# Altium schematic symbol library dvrk-s-pwm_1.SCHLIB: 54 symbols (part 1 of 2)
Pins are listed as number, name and electrical type; pins without a type are passive.

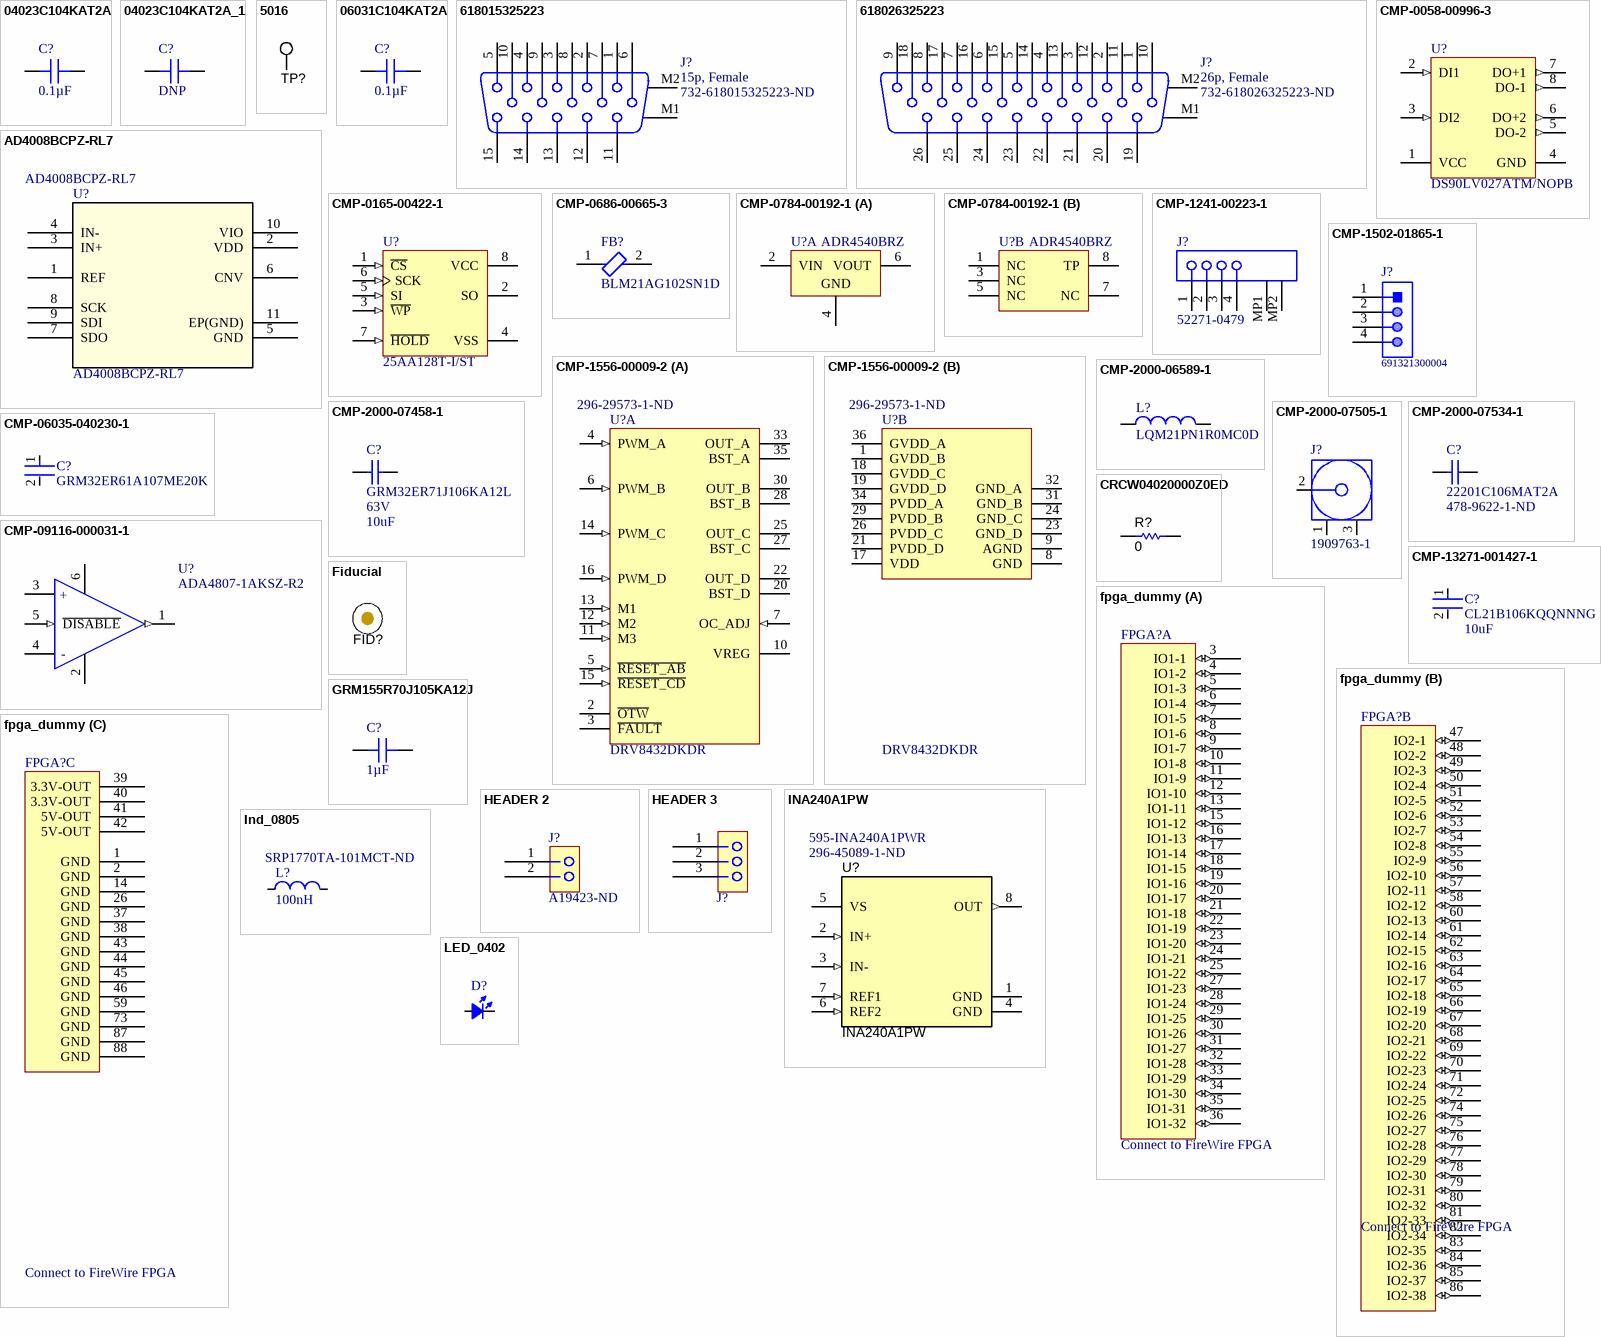
[diagram p0: symbols 04023C104KAT2A to LED_0402]

## 04023C104KAT2A
designator C?, comment 0.1µF
CAP CER 0.1UF 25V X7R 0402; Part Number: 04023C104KAT2A; Manufacturer: AVX Corporation; Tolerance: ±10%; Applications: General Purpose; Capacitance: 0.1µF; ComponentLink1Description: Datasheet; ComponentLink1URL: http://datasheets.avx.com/X7RDielectric.pdf; ComponentLink2Description: DigiKey Link; ComponentLink2URL: http://digikey.com/product-detail/en/avx-corporation/04023C104KAT2A/478-7868-1-ND/3881491; Device Package: 0402 (1005 Metric); LastUpdated: 9/2/2020 1:02:21 AM; Lifecycle Status: Active; Minimum Order: 1; Mounting Type: Surface Mount, MLCC; Operating Temperature: -55°C ~ 125°C; Package / Case: 0402 (1005 Metric); Packaging: CutTape; PartId: 3190; Part Status: Active; Price: 0.13; Series: -; Size / Dimension: 0.039" L x 0.020" W (1.00mm x 0.50mm); Supplier 1: DigiKey; Supplier Part Number 1: 478-7868-1-ND; Temperature Coefficient: X7R; Thickness (Max): 0.022" (0.55mm); Voltage - Rated: 25V; Value: 0.1µF
footprint CAP 0402_1005
pins: 1, 2

## 04023C104KAT2A_1
designator C?, comment DNP
CAP CER 0.1UF 25V X7R 0402; Part Number: 04023C104KAT2A; Manufacturer: AVX Corporation; Capacitance: 0.1µF; Tolerance: ±10%; Value: DNP; Applications: General Purpose; ComponentLink1Description: Datasheet; ComponentLink1URL: http://datasheets.avx.com/X7RDielectric.pdf; ComponentLink2Description: DigiKey Link; ComponentLink2URL: http://digikey.com/product-detail/en/avx-corporation/04023C104KAT2A/478-7868-1-ND/3881491; Device Package: 0402 (1005 Metric); LastUpdated: 9/2/2020 1:02:21 AM; Lifecycle Status: Active; Minimum Order: 1; Mounting Type: Surface Mount, MLCC; Operating Temperature: -55°C ~ 125°C; Package / Case: 0402 (1005 Metric); Packaging: CutTape; PartId: 3190; Part Status: Active; Price: 0.13; Series: -; Size / Dimension: 0.039" L x 0.020" W (1.00mm x 0.50mm); Supplier 1: DigiKey; Supplier Part Number 1: 478-7868-1-ND; Temperature Coefficient: X7R; Thickness (Max): 0.022" (0.55mm); Voltage - Rated: 25V
footprint CAP 0402_1005
pins: 1, 2

## 5016
designator TP?  (value not drawn)
Test Point, Compact, SMT; Manufacturer: Keystone; CompType: Test Point Loop; SymbolVersion: 2008-04-04; PartNumber: 5016; PackageReference: Testpoint_Keystone_Compact; RoHS: Y; MountType: SMT; ComponentLink1Description: Datasheet URL; ComponentLink1URL: http://www.keyelco.com/userAssets/store/files/5016.PDF; Publisher: Texas Instruments; LatestRevisionDate: 2016-09-14; Supplier 1: Digi-Key; Supplier Part Number 1: 36-5016TR-ND; Supplier 2: Mouser; Supplier Part Number 2: 534-5016
footprint Testpoint_Keystone_Compact
pins: 1

## 06031C104KAT2A
designator C?, comment 0.1µF
CAP CER 0.1UF 100V X7R 0603; Part Number: 06031C104KAT2A; Manufacturer: AVX Corporation; Tolerance: ±10%; Value: 0.1µF; Applications: General Purpose; Capacitance: 0.1µF; ComponentLink1Description: Datasheet; ComponentLink1URL: http://datasheets.avx.com/X7RDielectric.pdf; ComponentLink2Description: DigiKey Link; ComponentLink2URL: http://digikey.com/product-detail/en/avx-corporation/06031C104KAT2A/478-10047-1-ND/6564270; Device Package: 0603 (1608 Metric); LastUpdated: 9/2/2020 1:03:14 AM; Lifecycle Status: Active; Minimum Order: 1; Mounting Type: Surface Mount, MLCC; Operating Temperature: -55°C ~ 125°C; Package / Case: 0603 (1608 Metric); Packaging: TapeAndReel; PartId: 14077; Part Status: Active; Price: 0.03; Series: -; Size / Dimension: 0.063" L x 0.032" W (1.60mm x 0.81mm); Supplier 1: DigiKey; Supplier Part Number 1: 478-10047-1-ND; Temperature Coefficient: X7R; Thickness (Max): 0.037" (0.94mm); Voltage - Rated: 100V
footprint CAP 0603_1608
pins: 1, 2

## 618015325223
designator J?, comment 15p, Female  Supplier Part Number 1: 732-618015325223-ND
WR-DSUB Female High Density Angled PCB Connector without Hex Screw, 15p; PartNumber: 618015325223; Manufacturer: Wurth Electronics; PinNumber: 15; Published: June 2016; Publisher: Wurth Elektronik; ComponentLink1Description: Manufacturer; ComponentLink1URL: http://www.we-online.de; ComponentLink2Description: Datasheet; ComponentLink2URL: http://katalog.we-online.de/em/datasheet/6180xx325223.pdf; Supplier 1: Digi-Key; Manufacturer Part Number: 618015325223; RoHS: Yes; Category: D-Sub Connectors; Stock 1: 157; Pricing 1: 1=4.02000, 10=3.81000, 50=3.38400, 100=2.95200, 250=2.53200, 500=2.25600 (USD); RoHS Compliant: Yes
footprint 618015325223 (15 pins, right angled with Rivet)
pins: 1, 2, 3, 4, 5, 6, 7, 8, 9, 10, 11, 12, 13, 14, 15, M1, M2

## 618026325223
designator J?, comment 26p, Female  Supplier Part Number 1: 732-618026325223-ND
WR-DSUB Female High Density Angled PCB Connector without Hex Screw, 26p; PartNumber: 618026325223; Manufacturer: Wurth Electronics; PinNumber: 26; Published: June 2016; Publisher: Wurth Elektronik; ComponentLink1Description: Manufacturer; ComponentLink1URL: http://www.we-online.de; ComponentLink2Description: Datasheet; ComponentLink2URL: http://katalog.we-online.de/em/datasheet/6180xx325223.pdf; system: connector; Supplier 1: Digi-Key; Manufacturer Part Number: 618026325223; RoHS: Yes; Stock 1: 325; Pricing 1: 1=8.10000, 10=7.69500, 50=7.15500, 100=6.75000, 250=6.21000, 500=5.40002 (USD); RoHS Compliant: Yes
footprint 618026325223 (26 pins, right angled with Rivet)
pins: 1, 2, 3, 4, 5, 6, 7, 8, 9, 10, 11, 12, 13, 14, 15, 16, 17, 18, 19, 20, 21, 22, 23, 24, 25, 26, M1, M2

## AD4008BCPZ-RL7
designator U?
16-Bit, 2 MSPS/1 MSPS/500 kSPS, / Precision, Pseudo Differential, SAR ADCs; Value: Value; Type: Type; RefDes: RefDes; Supplier 1: Arrow Electronics; Supplier Part Number 1: AD4008BCPZ-RL7
footprint CP_10_9
pins: 1 REF, 2 VDD, 3 IN+, 4 IN-, 5 GND, 6 CNV, 7 SDO, 8 SCK, 9 SDI, 10 VIO, 11 EP(GND)

## CMP-0058-00996-3
designator U?, comment DS90LV027ATM/NOPB
LVDS Dual High Speed Differential Driver, 8-pin Narrow SOIC, Pb-Free; Manufacturer: Texas Instruments; PowerWise: N; CompType: Interface IC; PackageTopMarking: NSZXTT*LV27A*TM; ComponentLink1Description: Datasheet URL; Code_JEDEC: MS-012-AA; PinCount: 8; PackageDescription: SOIC Narrow, 4.9 x 3.9 x 1.45mm, 8 Lead, 1.27mm Pitch; RoHS: Y; ComponentLink1URL: http://www.ti.com/general/docs/lit/getliterature.tsp?genericPartNumber=DS90LV027A&fileType=pdf; PackageReference: D0008A; Code_IPC: SOIC127P600-8
footprint D0008A_L (SOIC, 8-Leads, Body 5x4mm, Pitch 1.27mm, IPC High Density)
footprint D0008A_N (SOIC, 8-Leads, Body 5x4mm, Pitch 1.27mm, IPC Medium Density)
footprint D0008A_M (SOIC, 8-Leads, Body 5x4mm, Pitch 1.27mm, IPC Low Density)
pins: 1 VCC (power), 2 DI1 (in), 3 DI2 (in), 4 GND (power), 5 DO-2 (out), 6 DO+2 (out), 7 DO+1 (out), 8 DO-1 (out)

## CMP-0165-00422-1
designator U?, comment 25AA128T-I/ST
128K SPI Bus Serial EEPROM, 8-Pin TSSOP, Industrial Temperature, Tape and Reel; PackageVersion: revBB, Aug-2009; PackageDescription: 8-Lead Plastic Thin Shrink Small Outline (ST) - 4.4mm Body [TSSOP]; Code_JEDEC: MO-153; DatasheetVersion: revD, Jun-2009; PackageReference: TSSOP-ST8
footprint TSSOP-ST8_M (TSOP, 8-Leads, Body 3x4.4mm, Pitch 0.65mm, IPC Low Density)
footprint TSSOP-ST8_L (TSOP, 8-Leads, Body 3x4.4mm, Pitch 0.65mm, IPC High Density)
footprint TSSOP-ST8_N (TSOP, 8-Leads, Body 3x4.4mm, Pitch 0.65mm, IPC Medium Density)
pins: 1 ~{CS} (in), 2 SO (hiz), 3 ~{WP} (in), 4 VSS (power), 5 SI (in), 6 SCK (in), 7 ~{HOLD} (in), 8 VCC (power)

## CMP-0686-00665-3
designator FB?, comment BLM21AG102SN1D
Chip Ferrite Bead, 0805, 1000Ω @ 100MHz, 0.27Ω, 25%, 600mA; Material: Steel; Number of Lines: 1; Current Rating: 500mA; Max DC Current: 200mA; Impedance: 1kR; DC Resistance (DCR): 280mR; Shielding: Unshielded; Length: 2mm; Max Current Rating: 600mA; Max Operating Temperature: 125°C; Lead Free: Lead Free; Test Frequency: 100MHz; Number of Pins: 2; Height: 0.85mm; Package Quantity: 1; Termination: SMD/SMT; Depth: 1.25mm; Radiation Hardening: No; Case Code (Metric): 2012; Tolerance: 25%; Core Material: Ferrite; Min Operating Temperature: -55°C; Case Code (Imperial): 0805; Weight: 0.000194oz; DC Current: 200mA; Case/Package: 0805; REACH SVHC: No SVHC; Frequency: 100MHz; Military Standard: Not; Number of Circuits: 1; Width: 1.25mm; Packaging: Tape and Reel
footprint FP-BLM21-0_2-t0_85-e0_5-MFG
footprint FP-BLM21-0_2-t0_85-e0_5-IPC_C
footprint FP-BLM21-0_2-t0_85-e0_5-IPC_B
footprint FP-BLM21-0_2-t0_85-e0_5-IPC_A
pins: 1, 2

## CMP-0784-00192-1
designator U?, comment ADR4540BRZ
Ultralow Noise, High Accuracy Voltage Reference, 4.096 V Output, 3 to 15 V Supply, Industrial, 8-pin SOIC (R-8), Tube; Manufacturer: Analog Devices; Max V Supply (V): 15; Min V Supply (V): 3; Vout: 4.096V; Ref Out TC (ppm/C): 2; ComponentLink4URL: Product URL:http://www.analog.com/en/special-linear-functions/voltage-references/adr4540/products/product.html; Mounting Technology: Surface Mount; ComponentLink1Description: Manufacturer URL; PackageDescription: 8-Pin Standard Small Outline Package, Body 4.9 x 3.9 mm, Pitch 1.27 mm; ComponentLink2URL: http://www.analog.com/static/imported-files/data_sheets/ADR4520_4525_4530_4533_4540_4550.pdf; ComponentLink1URL: http://www.analog.com/en/index.html; DatasheetVersion: Rev. 0; ComponentLink4Description: URL Link1; Operating Temp Range: -40 to 125 degC; PartNumber: ADR4540BRZ; ComponentLink2Description: Datasheet; ComponentLink3URL: http://www.analog.com/static/imported-files/packages/PKG_PDF/SOIC_Narrow%20(R)/R_8.pdf; ComponentLink3Description: Package Specification; PackageVersion: 060506-A, 06/2006; Packing: Tube; PackageReference: R-8; Code_JEDEC: MS-012-AA
footprint ADI-R-8_M (SOIC, 8-Leads, Body 4.9x3.9mm, Pitch 1.27mm, IPC Low Density)
footprint ADI-R-8_L (SOIC, 8-Leads, Body 4.9x3.9mm, Pitch 1.27mm, IPC High Density)
footprint ADI-R-8_N (SOIC, 8-Leads, Body 4.9x3.9mm, Pitch 1.27mm, IPC Medium Density)
part A pins: 2 VIN (power) "Input Voltage Connection.", 4 GND (power) "Ground.", 6 VOUT (power) "Output Voltage."
part B pins: 1 NC "No Connect. This pin is not connected internally.", 3 NC "No Connect. This pin is not connected internally.", 5 NC "No Connect. This pin is not connected internally.", 7 NC "No Connect. This pin is not connected internally.", 8 TP "Test Pin. Do not connect."

## CMP-1241-00223-1
designator J?, comment 52271-0479
1.0 mm Pitch Easy-On(TM) Type FPC Connector, 3.0 mm Mated Height, Right Angle, ZIF, SMT, Bottom Contact, 4 Circuits, -40 to 85 degC, ELV and RoHS Compliant, Tape and Reel; Manufacturer: Molex; Material - Plating Mating: Tin-Bismuth; Mated Height: 3.00mm; Polarized to PCB: Yes; Durability (mating cycles max): 30; Stackable: No; Material - Metal: Phosphor Bronze; Entry Angle: 90degrees Angle; Circuits (Loaded): 4; Pitch - Mating Interface: 1.00mm; Current (Max per Contact): 0.5A; Voltage (Max): 50V AC (RMS)/DC; ComponentLink2Description: Datasheet; ComponentLink3Description: Package Specification; ComponentLink1Description: Manufacturer URL; Material - Plating Termination: Tin-Bismuth; PackageVersion: Rev. B, 04/2004; ComponentLink3URL: http://www.molex.com/pdm_docs/sd/522710479_sd.pdf; ComponentLink1URL: http://www.molex.com/molex/index.jsp; PackageReference: 52271-0479; Packing: Tape and Reel; PCB Retention: Yes; Contact Position: Bottom; Mounting Technology: Surface Mount; Orientation: Right Angle; PartNumber: 52271-0479; PackageDescription: 4-Lead FPC Connector, Pitch 1.0 mm; ComponentLink2URL: http://www.molex.com/webdocs/datasheets/pdf/en-us/0522710479_FFC_FPC_CONNECTORS.pdf; Number of Rows: 1; PCB Locator: No; Pitch - Termination Interface: 1.00mm; RoHS: TRUE
footprint MOLX-52271-0479 (FPC Connector, 4-Leads, Right Angle, Pitch 1.0 mm, Mated Height 3.0 mm, SMT)
pins: 1, 2, 3, 4, MP1, MP2

## CMP-1502-01865-1
designator J?, comment 691321300004
Serie 321 - 3.81mm Vertical PCB Header WR-TBL, 4 pin; Manufacturer: Wurth Elektronik; Gender: Male; Pin Number: 4; Packaging: Box; Mounting Technology: THT; Pitch: 3.81mm; Manufacturer URL: http://www.we-online.de; Part Number: 691321300004; Operating Temperature: -40to105degC; Package Reference: 691321300004; Publisher: WurthElektronik; Datasheet URL: http://katalog.we-online.de/em/datasheet/6913213000xx.pdf
footprint 691321300004 (Vertical PCB Header, pitch 3.81mm, 04p)
pins: 1, 2, 3, 4

## CMP-1556-00009-2
designator U?, comment DRV8432DKDR  Supplier Part Number 1: 296-29573-1-ND
12 A Dual Brushed DC or Single Bipolar Stepper Motor Driver (PWM Ctrl), 0 to 52.5 V, -40 to 85 degC, 36-pin SOP (DKD36), Green (RoHS & no Sb/Br); Manufacturer: Texas Instruments; Vs(Min)(V): 0; rDS (ON) (LS + HS)(mOhms): 220; RMS Output Current(A): 7; Vs(Max)(V): 52.5; Peak Output Current(A): 12; Operating Supply Voltage: 50V; Output Current: 7A; Max Supply Voltage: 52.5V; Min Supply Voltage: 0V; Number of Outputs: 2; Nominal Supply Current: 10.5mA; Power Dissipation: 5W; Max Output Current: 12A; Fault Protection: Over Temperature,Short Circuit; DatasheetVersion: SLES242D; ComponentLink1URL: http://www.ti.com/; ComponentLink1Description: Manufacturer URL; PackageVersion: 4204421-2/K, 11/2013; ComponentLink3Description: Package Specification; Package Reference: DKD0036A; ComponentLink2Description: Datasheet; PackageDescription: 36-Pin Plastic Small Outline, Body 15.9 x 11 mm, Pitch 0.65 mm; Control I/F: PWM; Eco-Plan: Green (RoHS & no Sb/Br); Mounting Technology: Surface Mount; ComponentLink2URL: http://www.ti.com/general/docs/lit/getliterature.tsp?genericPartNumber=DRV8432&fileType=pdf; PartNumber: DRV8432DKDR; ComponentLink3URL: http://www.ti.com/lit/ml/mpds126j/mpds126j.pdf; Supplier 1: Digi-Key; Manufacturer Part Number: DRV8432DKDR; RoHS: Yes; Category: Amplifiers - Audio; Stock 1: 927; Pricing 1: 1=12.21000, 10=11.03000, 25=10.51720, 100=8.72170, 250=7.95212 (USD); Mount: Surface Mount; Case/Package: HSSOP; Number of Pins: 36; Min Operating Temperature: -40°C; Max Operating Temperature: 85°C; Package Quantity: 500; Packaging: Tape and Reel; Supply Current: 10.5mA; Series: DRV8432; Interface: PWM; Output Current per Channel: 7A; Radiation Hardening: No; Lead Free: Lead Free; RoHS Compliant: Yes; ComponentLink4URL: https://datasheet.ciiva.com/15109/getdatasheetpartid-482142-15109561.pdf?src-supplier=Verical; ComponentLink4Description: https://datasheet.ciiva.com/15109/getdatasheetpartid-482142-15109561.pdf?src-supplier=Verical; ComponentLink5URL: https://datasheet.ciiva.com/1959/drv8432-1959978.pdf?src-supplier=Digi-Key; ComponentLink5Description: https://datasheet.ciiva.com/1959/drv8432-1959978.pdf?src-supplier=Digi-Key; ComponentLink6URL: https://datasheet.ciiva.com/41457/001013555-da-01-en-ic-bridge-driver-drv8432dkdr-ssop-36-tid-41457289.pdf?src-supplier=Conrad; ComponentLink6Description: https://datasheet.ciiva.com/41457/001013555-da-01-en-ic-bridge-driver-drv8432dkdr-ssop-36-tid-41457289.pdf?src-supplier=Conrad; ComponentLink7URL: https://datasheet.ciiva.com/3228/drv8432-3228999.pdf?src-supplier=Avnet; ComponentLink7Description: https://datasheet.ciiva.com/3228/drv8432-3228999.pdf?src-supplier=Avnet; ComponentLink8URL: https://datasheet.ciiva.com/1959/drv8432-1959979.pdf?src-supplier=Digi-Key; ComponentLink8Description: https://datasheet.ciiva.com/1959/drv8432-1959979.pdf?src-supplier=Digi-Key; ComponentLink9URL: https://datasheet.ciiva.com/1959/drv8432-1959980.pdf?src-supplier=Digi-Key; ComponentLink9Description: https://datasheet.ciiva.com/1959/drv8432-1959980.pdf?src-supplier=Digi-Key
footprint DKD0036A_N (SOP, 36-Leads, Body 16x11.1mm, Pitch 0.65mm, IPC Medium Density)
footprint DKD0036A_M (SOP, 36-Leads, Body 16x11.1mm, Pitch 0.65mm, IPC Low Density)
footprint DKD0036A_L (SOP, 36-Leads, Body 16x11.1mm, Pitch 0.65mm, IPC High Density)
part A pins: 2 ~{OTW} (oc) "Overtemperature warning signal, open-drain, active-low. An internal pull-up resistor to VREG (3.3 V) is provided on output. Level compliance for 5-V logic can be obtained by adding external pull-up resistor to 5 V", 3 ~{FAULT} (oc) "Fault signal, open-drain, active-low. An internal pull-up resistor to VREG (3.3 V) is provided on output. Level compliance for 5-V logic can be obtained by adding external pull-up resistor to 5 V", 4 PWM_A (in) "Input signal for half-bridge A", 5 ~{RESET_AB} (in) "Reset signal for half-bridge A and half-bridge B, active-low", 6 PWM_B (in) "Input signal for half-bridge B", 7 OC_ADJ (in) "Analog overcurrent programming pin, requires resistor to AGND", 10 VREG "Digital regulator supply filter pin requires 0.1-uF capacitor to AGND.", 11 M3 (in) "Reserved mode selection pin, AGND connection is recommended", 12 M2 (in) "Mode selection pin", 13 M1 (in) "Mode selection pin", 14 PWM_C (in) "Input signal for half-bridge C", 15 ~{RESET_CD} (in) "Reset signal for half-bridge C and half-bridge D, active-low", 16 PWM_D (in) "Input signal for half-bridge D", 20 BST_D "High side bootstrap supply (BST), external capacitor to OUT_D required", 22 OUT_D (hiz) "Output, half-bridge D", 25 OUT_C (hiz) "Output, half-bridge C", 27 BST_C "High side bootstrap supply (BST), external capacitor to OUT_C required", 28 BST_B "High side bootstrap supply (BST), external capacitor to OUT_B required", 30 OUT_B (hiz) "Output, half-bridge B", 33 OUT_A (hiz) "Output, half-bridge A", 35 BST_A "High side bootstrap supply (BST), external capacitor to OUT_A required"
part B pins: 1 GVDD_B (power) "Gate-drive voltage supply", 8 GND (power) "Ground", 9 AGND (power) "Analog ground", 17 VDD (power) "Power supply for digital voltage regulator requires capacitor to ground for decoupling.", 18 GVDD_C (power) "Gate-drive voltage supply", 19 GVDD_D (power) "Gate-drive voltage supply", 21 PVDD_D (power) "Power supply input for half-bridge D requires close decoupling capacitor to ground.", 23 GND_D (power) "Power ground for half-bridge D requires close decoupling capacitor to ground", 24 GND_C (power) "Power ground for half-bridge C requires close decoupling capacitor to ground", 26 PVDD_C (power) "Power supply input for half-bridge C requires close decoupling capacitor to ground.", 29 PVDD_B (power) "Power supply input for half-bridge B requires close decoupling capacitor to gound.", 31 GND_B (power) "Power ground for half-bridge B requires close decoupling capacitor to ground", 32 GND_A (power) "Power ground for half-bridge A requires close decoupling capacitor to ground", 34 PVDD_A (power) "Power supply input for half-bridge A requires close decoupling capacitor to ground.", 36 GVDD_A (power) "Gate-drive voltage supply"

## CMP-2000-06589-1
designator L?, comment LQM21PN1R0MC0D
Chip Inductor, 1.0 uH, +/- 20%, -55 to 125 degC, 2-Pin SMD (0805), RoHS, Tape and Reel; Manufacturer: Murata; Rated Current-Max: 800mA; Inductance-Nom: 1H; DC Resistance: 0.19; Mounting Technology: SurfaceMount; Package Reference: 0805; Tolerance (%): 20%; Datasheet Version: 07/2014; Manufacturer URL: http://www.murata.com/; Package Description: 2-Pin Surface Mounted Device, Body 2 x 1.25 mm; Case Size/Dimension: 0805; Datasheet URL: https://datasheet.ciiva.com/3866/336lqm21pn1r0mc023-3866307.pdf
footprint MURA-IND0805_H_0.55_L (Chip Inductor, 2-Leads, Body 2.2x1.45mm, IPC High Density)
footprint MURA-IND0805_H_0.55_M (Chip Inductor, 2-Leads, Body 2.2x1.45mm, IPC Low Density)
footprint MURA-IND0805_H_0.55_N (Chip Inductor, 2-Leads, Body 2.2x1.45mm, IPC Medium Density)
pins: 1, 2

## CMP-2000-07458-1
designator C?, comment GRM32ER71J106KA12L  Voltage Rating: 63V  Capacitance: 10uF
Chip Capacitor, 10 uF, +/- 10%, 63 V, -55 to 125 degC, 1210 (3225 Metric), RoHS, Tape and Reel; Manufacturer: Murata; Dielectric: X7R; Case\/Package: 1210; Material: Ceramic; Case Code (Imperial): 1210; Weight: 0.00388oz; Package Quantity: 1000; Min Operating Temperature: -55degC; Voltage: 63V; Datasheet URL: http://search.murata.co.jp/Ceramy/image/img/A01X/G101/ENG/GRM32ER71J106KA12-01.pdf; Tolerance: 10%; Datasheet Version: 03/2016; Package Reference: 1210; Manufacturer URL: http://www.murata.com/; Package Description: 2-Pin Surface Mount Device, Body 3.2 x 2.5 mm; Height: 2.5mm; Length: 3.2mm; Max Operating Temperature: 125degC; REACH SVHC: NoSVHC; Lead Free: LeadFree; Case Code (Metric): 3225; Mounting Technology: SurfaceMount; Thickness: 0.106inch; RoHSCompliant: true; Packaging: TapeandReel; Dielectric Material: Ceramic; Width: 2.5mm; Voltage Rating (DC): 63V; Depth: 2.5mm; Termination: SMD/SMT
footprint CAPC3225X270X30LL30 (Chip Capacitor, 2-Leads, Body 3.5x2.7mm, IPC High Density)
footprint CAPC3225X270X30ML30 (Chip Capacitor, 2-Leads, Body 3.5x2.7mm, IPC Low Density)
footprint CAPC3225X270X30NL30 (Chip Capacitor, 2-Leads, Body 3.5x2.7mm, IPC Medium Density)
pins: 1, 2

## CMP-2000-07505-1
designator J?, comment 1909763-1
Ultra Miniature Coaxial Connector Jack, 60 V, 50 Ohm, -40 to 90 degC, RoHS, Tape and Reel; Manufacturer: TE Connectivity; Gender: Female; PCB Mounting Orientation: Vertical; Body Material: LiquidCrystalPolymer; Case\/Package: SMD/SMT; Impedance: 50Ohm; Max Frequency: 6GHz; Body Plating: Gold; Dielectric Material: Polymer; Orientation: Straight; Mount: SurfaceMount; Length: 3mm; Packaging: TapeandReel; Connector Type: Jack; Lead Free: LeadFree; Package Quantity: 1; Termination: SMD/SMT; Contact Material: CopperAlloy; Fastening Type: Pull; RoHSCompliant: true; Max Operating Temperature: 90degC; Datasheet URL: http://www.te.com/commerce/DocumentDelivery/DDEController?Action=srchrtrv&DocNm=1909763&DocType=Customer+Drawing&DocLang=English; Contact Plating: Gold; Mounting Technology: SurfaceMount; Package Reference: TECO-1909763-1; Insulation Material: Thermoplastic; Min Operating Temperature: -40degC; Manufacturer URL: http://www.te.com/; ELV: Compliant; Datasheet Version: Rev. B2, 11/2015; Radiation Hardening: No; Package Description: 3-Pin Surface Mount Device, Body 2.6 x 2.6 mm; Housing Colour: Beige
footprint TECO-1909763-1_V (SMD, 3-Leads, Body 2.6x2.6mm, Height 1.25mm)
pins: 1, 2, 3

## CMP-2000-07534-1
designator C?, comment 22201C106MAT2A  Supplier Part Number 1: 478-9622-1-ND
Chip Capacitor, 10 uF, +/- 20%, 100 V, -55 to 125 degC, 2220 (5750 Metric), RoHS, Tape and Reel; Manufacturer: AVX; Capacitance: 10uF; Voltage Rating: 100V; Dielectric: X7R; Datasheet URL: http://datasheets.avx.com/X7RDielectric.pdf; Package Reference: 2220; Package Description: 2-Pin Surface Mount Device, Body 5 x 5.7 mm; Datasheet Version: 03/2017; Manufacturer URL: http://www.avx.com/; Mounting Technology: SurfaceMount; Supplier 1: Digi-Key; Manufacturer Part Number: 22201C106MAT2A; RoHS: Yes; Category: Ceramic Capacitors; Stock 1: 186870; Pricing 1: 1=2.06000, 10=1.66400, 50=1.45200, 100=1.27050 (USD); Mount: Surface Mount; Case/Package: 2220; Case Code (Metric): 5750; Case Code (Imperial): 2220; Min Operating Temperature: -55°C; Max Operating Temperature: 125°C; Packaging: Tape and Reel; Tolerance: 20%; Voltage Rating (DC): 100V; Length: 0.224inch; Width: 0.197inch; Thickness: 0.11inch; RoHS Compliant: Yes; ComponentLink1URL: http://catalogs.avx.com/SurfaceMount.pdf?src-supplier=Digi-Key; ComponentLink1Description: http://catalogs.avx.com/SurfaceMount.pdf?src-supplier=Digi-Key
footprint CAPC5750X279X64LL40T39 (Chip Capacitor, 2-Leads, Body 6.1x5.4mm, IPC High Density)
footprint CAPC5750X279X64ML40T39 (Chip Capacitor, 2-Leads, Body 6.1x5.4mm, IPC Low Density)
footprint CAPC5750X279X64NL40T39 (Chip Capacitor, 2-Leads, Body 6.1x5.4mm, IPC Medium Density)
pins: 1, 2

## CMP-06035-040230-1
designator C?, comment GRM32ER61A107ME20K
Chip Multilayer Ceramic Capacitors for General Purpose, 1210, 100uF, X5R, 15%, 20%, 10V; Package Quantity: 4000; Voltage Rating: 10V; Packaging: Tape and Reel; Length: 0.126inch; Voltage Rating (DC): 10V; Tolerance: 20%; Case Code (Imperial): 1210; Max Operating Temperature: 85°C; Capacitance: 100uF; Dielectric: X5R; Case/Package: 1210; Mount: Surface Mount; Termination: SMD/SMT; Min Operating Temperature: -55°C; Thickness: 0.106inch; Case Code (Metric): 3225; Width: 0.098inch; Weight: 0.00388oz
footprint FP-GRM32E-0_3-0_2-IPC_B
footprint FP-GRM32E-0_3-0_2-IPC_C
footprint FP-GRM32E-0_3-0_2-MFG
footprint FP-GRM32E-0_3-0_2-IPC_A
pins: 1, 2

## CMP-09116-000031-1
designator U?, comment ADA4807-1AKSZ-R2
IC OPAMP VFB 1 CIRCUIT SC70-6; Manufacturer: Analog Devices; Input Offset Voltage: 0.020mV; Voltage Gain: 130dB; Output Current Per Channel: 80mA; Input Bias Current: -1.2uA; Nominal Supply Current: 1-1000uA; Min Supply Voltage: 2.7V; Number Of Channels: 1; Max Supply Voltage: 11V; Category: IC; Ipc Land Pattern Name: SOT65P210X95-6; Temperature Range Low: -40°C; Device Class L1: Integrated Circuits (ICs); Package: KS-6; Height: 1.1mm; Temperature Range High: +125°C; Device Class L3: Amplifiers - Op Amps; ComponentLink2Description: Datasheet; Device Class L2: Linear ICs; RoHS: TRUE; ComponentLink2URL: https://www.analog.com/media/en/technical-documentation/data-sheets/ADA4807-1_4807-2_4807-4.pdf; Automotive: No; Lead Free: Yes; Digikey Description: IC OPAMP VFB 1 CIRCUIT SC70-6; Mouser Description: Operational Amplifiers - Op Amps Ultra Low Pwr 120MHz High Spd R/R AMP; Manufacturer Part Number: ADA4807-1AKSZ-R2; Temperature: -40°C to +125°C; Octopart: https://octopart.com/ada4807-1aksz-r2-analog+devices-52932031
footprint FP-KS-6-IPC_C
footprint FP-KS-6-IPC_B
footprint FP-KS-6-IPC_A
pins: 1 VOUT (out), 2 -VS (power), 3 +IN (hiz), 4 -IN (hiz), 5 ~{DISABLE} (in), 6 +VS (power)
text: +; -

## CMP-13271-001427-1
designator C?, comment CL21B106KQQNNNG  Capacitance: 10uF
CL21 Series 0805 10uF 6.3V ±10% Tolerance X7R Multilayer Ceramic Chip Capacitor; Min Operating Temperature: -55°C; Dielectric: X7R; Voltage Rating: 6.3V; Case/Package: 0805; Height: 1.25mm; Case Code (Metric): 2012; Tolerance: 10%; Packaging: Tape and Reel; Thickness: 0.055inch; Voltage: 6.3V; Max Operating Temperature: 125°C; Lead Free: Lead Free; Package Quantity: 3000; Case Code (Imperial): 0805; Depth: 1.25mm; Width: 0.049inch; Length: 2mm; Mount: Surface Mount
footprint FP-CL21-IPC_C
footprint FP-CL21-IPC_B
footprint FP-CL21-IPC_A
pins: 1, 2

## CRCW04020000Z0ED
designator R?  ValueDisplayed: 0  (hidden comment: CRCW04020000Z0ED)
RES, 0, 5%, 0.063 W, 0402; Manufacturer: Vishay-Dale; CompType: Resistor; Value: 0; Value_Code: 0000; Tolerance_%: 5; Power_W: 0.063; Value2: 0.063W; VDC_V: 50; TempCo: 200 ppm/C; SizeArea_mm2: 0.5; SizeX_mm: 1; SizeZ_mm: 0.6; EIA_Code: E24; U/M: EA; AEC Category: Q200; SymbolVersion: 2009-05-29; PartNumber: CRCW04020000Z0ED; PackageReference: 0402; RoHS: Y; Res_ohm: 0; Value1: 5%; MountType: SMT; Technology: Thick Film; SizeY_mm: 0.5; Published: 2008-06-26; Publisher: Texas Instruments; LatestRevisionDate: 2016-07-14; ComponentLink1Description: Datasheet link; ComponentLink1URL: http://www.vishay.com/docs/20035/dcrcwe3.pdf; Supplier 1: Digi-Key; Supplier Part Number 1: 541-0.0JCT-ND; Supplier 2: Mouser; Supplier Part Number 2: 71-CRCW0402-0-E3; Supplier 3: Farnell; Supplier Part Number 3: 1469661; AEC Qualified: ?
signal-integrity model Resistor
simulation model Resistor
footprint RESC1005X40X25NL05T05 (Chip Resistor, 2-Leads, Body 1.05x0.55mm, IPC Medium Density)
pins: 1, 2

## Fiducial
designator FID?  (value not drawn)
Fiducial mark.  There is nothing to buy or mount.; SymbolCreator: codlsc; SymbolVersion: 2009-11-4; CompType: Fiducial; Publisher: National Semiconductor; LatestRevisionDate: 2011-09-19; LatestRevisionNote: Added Alternate PartNumber and Alternate Manufacturer parameters to appropriate components.; ComponentLink1URL: Paste URL for datasheet here; Manufacturer: N/A; MountType: N/A; PackageReference: Fiducial; PartNumber: N/A; ClassName: FiducialMark
footprint Fiducial10-30
footprint Fiducial10-20
footprint Fiducial15-30
footprint Fiducial20-40
footprint Fiducial6.4-20
footprint Fiducial10-30_TopLayerKeepOutOnly
footprint Fiducial6.4-20_TopLayerKeepOutOnly
footprint Fiducial10-20_TopLayerKeepOutOnly
footprint Fiducial15-30_TopLayerKeepOutOnly
footprint Fiducial20-40_TopLayerKeepOutOnly

## fpga_dummy
designator FPGA?, comment Connect to FireWire FPGA
ClassName: noclearancecheck
footprint FPGA-dummy
part A pins: 3 IO1-1 (io), 4 IO1-2 (io), 5 IO1-3 (io), 6 IO1-4 (io), 7 IO1-5 (io), 8 IO1-6 (io), 9 IO1-7 (io), 10 IO1-8 (io), 11 IO1-9 (io), 12 IO1-10 (io), 13 IO1-11 (io), 15 IO1-12 (io), 16 IO1-13 (io), 17 IO1-14 (io), 18 IO1-15 (io), 19 IO1-16 (io), 20 IO1-17 (io), 21 IO1-18 (io), 22 IO1-19 (io), 23 IO1-20 (io), 24 IO1-21 (io), 25 IO1-22 (io), 27 IO1-23 (io), 28 IO1-24 (io), 29 IO1-25 (io), 30 IO1-26 (io), 31 IO1-27 (io), 32 IO1-28 (io), 33 IO1-29 (io), 34 IO1-30 (io), 35 IO1-31 (io), 36 IO1-32 (io)
part B pins: 47 IO2-1 (io), 48 IO2-2 (io), 49 IO2-3 (io), 50 IO2-4 (io), 51 IO2-5 (io), 52 IO2-6 (io), 53 IO2-7 (io), 54 IO2-8 (io), 55 IO2-9 (io), 56 IO2-10 (io), 57 IO2-11 (io), 58 IO2-12 (io), 60 IO2-13 (io), 61 IO2-14 (io), 62 IO2-15 (io), 63 IO2-16 (io), 64 IO2-17 (io), 65 IO2-18 (io), 66 IO2-19 (io), 67 IO2-20 (io), 68 IO2-21 (io), 69 IO2-22 (io), 70 IO2-23 (io), 71 IO2-24 (io), 72 IO2-25 (io), 74 IO2-26 (io), 75 IO2-27 (io), 76 IO2-28 (io), 77 IO2-29 (io), 78 IO2-30 (io), 79 IO2-31 (io), 80 IO2-32 (io), 81 IO2-33 (io), 82 IO2-34 (io), 83 IO2-35 (io), 84 IO2-36 (io), 85 IO2-37 (io), 86 IO2-38 (io)
part C pins: 1 GND (power), 2 GND (power), 14 GND (power), 26 GND (power), 37 GND (power), 38 GND (power), 39 3.3V-OUT (power), 40 3.3V-OUT (power), 41 5V-OUT (power), 42 5V-OUT (power), 43 GND (power), 44 GND (power), 45 GND (power), 46 GND (power), 59 GND (power), 73 GND (power), 87 GND (power), 88 GND (power)

## GRM155R70J105KA12J
designator C?, comment 1µF
CAP CER 1UF 6.3V X7R 0402; Part Number: GRM155R70J105KA12J; Manufacturer: Murata Electronics; Tolerance: ±10%; Value: 1µF; Applications: General Purpose; Capacitance: 1µF; ComponentLink1Description: Datasheet; ComponentLink1URL: https://search.murata.co.jp/Ceramy/image/img/A01X/G101/ENG/GRM155R70J105KA12-01.pdf; ComponentLink2Description: DigiKey Link; ComponentLink2URL: http://digikey.com/product-detail/en/murata-electronics/GRM155R70J105KA12J/490-13339-1-ND/5973350; Device Package: 0402 (1005 Metric); LastUpdated: 9/2/2020 1:02:22 AM; Lifecycle Status: Active; Minimum Order: 1; Mounting Type: Surface Mount, MLCC; Operating Temperature: -55°C ~ 125°C; Package / Case: 0402 (1005 Metric); Packaging: TapeAndReel; PartId: 2890; Part Status: Active; Price: 0.01; Series: GRM; Size / Dimension: 0.039" L x 0.020" W (1.00mm x 0.50mm); Supplier 1: DigiKey; Supplier Part Number 1: 490-13339-1-ND; Temperature Coefficient: X7R; Thickness (Max): 0.022" (0.55mm); Voltage - Rated: 6.3V
footprint CAP 0402_1005
pins: 1, 2

## HEADER 2
designator J?, comment Supplier Part Number 1: A19423-ND  (hidden comment: Substitute with tyco 640457-2)
TE Connectivity MTA-100 Series, 2.54mm Pitch 2 Way 1 Row Straight PCB Header, Solder Termination, 5A; system: connector; Voltage Rating: 250V; Number of Contacts: 2; Plating Thickness: 3.81um; Shrouded: No (Without); Contact Resistance: 6mR; Gender: Male; Underplate Material: Nickel; Connector Type: Plug,Header,Pin; Connector System: Wire-to-Board; PCB Mount Retention: Without; PCB Mounting Orientation: Vertical; Contact Post Length: 3.56mm; PCB Thickness: 0.063inch; Approvals: CSA; Manufacturer: TE Connectivity; Manufacturer Part Number: 640457-2; Stock 1: 10901; Pricing 1: 1=0.14, 10=0.127, 100=0.0783, 500=0.06482, 1000=0.05672, 5000=0.04862, 10000=0.04727 (USD); Mount: Through Hole; Colour: White,Natural,Beige; Contact Plating: Tin; Min Operating Temperature: -67°C; Max Operating Temperature: 221°C; Packaging: Bulk; Fastening Type: Friction; Current Rating: 5A; Contact Gender: Male; Termination: Solder; Orientation: Right Angle; Contact Current Rating: 5A; Max Voltage Rating (AC): 250V; Contact Mating Length: 0.295inch; Termination Post Length: 3.56mm; Depth: 11.04mm; Radiation Hardening: No; Flammability Rating: UL94 V-0; ELV: Compliant; Lead Free: Lead Free; REACH SVHC: Unknown; ComponentLink1URL: https://datasheet.ciiva.com/709/eng-cd-640457-s2-709682.pdf; ComponentLink1Description: https://datasheet.ciiva.com/709/eng-cd-640457-s2-709682.pdf; ComponentLink2URL: https://datasheet.ciiva.com/14640/70083657-14640359.pdf; ComponentLink2Description: https://datasheet.ciiva.com/14640/70083657-14640359.pdf; ComponentLink3URL: https://datasheet.ciiva.com/3118/eng-ds-82056-mta-0608-3118505.pdf; ComponentLink3Description: https://datasheet.ciiva.com/3118/eng-ds-82056-mta-0608-3118505.pdf; ComponentLink4URL: https://datasheet.ciiva.com/11750/0900766b806a960f-11750281.pdf; ComponentLink4Description: https://datasheet.ciiva.com/11750/0900766b806a960f-11750281.pdf; ComponentLink5URL: https://datasheet.ciiva.com/30192/8852eng-ds-82056-mta-0608-30192537.pdf; ComponentLink5Description: https://datasheet.ciiva.com/30192/8852eng-ds-82056-mta-0608-30192537.pdf; ComponentLink6URL: https://datasheet.ciiva.com/16395/eng-ds-82056-mta-0608-16395963.pdf; ComponentLink6Description: https://datasheet.ciiva.com/16395/eng-ds-82056-mta-0608-16395963.pdf; ComponentLink7URL: https://datasheet.ciiva.com/25618/0900766b80e9e25b-25618125.pdf; ComponentLink7Description: https://datasheet.ciiva.com/25618/0900766b80e9e25b-25618125.pdf; ComponentLink8URL: https://datasheet.ciiva.com/16505/eng-ds-82056-mta-0608-16505423.pdf; ComponentLink8Description: https://datasheet.ciiva.com/16505/eng-ds-82056-mta-0608-16505423.pdf; ComponentLink9URL: https://datasheet.ciiva.com/16656/eng-ds-82056-mta-0608-16656527.pdf; ComponentLink9Description: https://datasheet.ciiva.com/16656/eng-ds-82056-mta-0608-16656527.pdf; RoHS: Yes; Category: Connectors; Stock 2: 28315; Pricing 2: 1=0.10000, 10=0.09400, 100=0.05800, 500=0.04802, 1000=0.04202, 5000=0.03601, 10000=0.03501 (USD); Contact Material: Copper Alloy; Color: Natural,White,Beige; Housing Color: Natural; Housing Material: Polyester; Contact Shape: Square; Number of Rows: 1; Package Quantity: 1; Number of Positions: 2; Backwall/Post Interruptions: No (Without); Contact Retention: No (Without); Mating Alignment: No (Without); Mating Retention: No (Without); PCB Mount Alignment: No (Without); Sealable: No (Without); Strain Relief: No (Without); Contact Style: Straight; Series: MTA-100; Contact Type: Male Pin; Length: 5.08mm; Height: 7.75mm; Pitch: 2.54mm; Tail Length: 3.56mm; RoHS Compliant: Yes; ComponentLink10URL: https://datasheet.ciiva.com/15175/getdatasheetpartid-46749-15175703.pdf?src-supplier=Verical; ComponentLink10Description: https://datasheet.ciiva.com/15175/getdatasheetpartid-46749-15175703.pdf?src-supplier=Verical; ComponentLink11URL: https://datasheet.ciiva.com/16394/eng-ds-82056-mta-0608-16394202.pdf?src-supplier=Future+Electronics; ComponentLink11Description: https://datasheet.ciiva.com/16394/eng-ds-82056-mta-0608-16394202.pdf?src-supplier=Future+Electronics; ComponentLink12URL: https://datasheet.ciiva.com/6045/1650873-6045536.pdf?src-supplier=Farnell; ComponentLink12Description: https://datasheet.ciiva.com/6045/1650873-6045536.pdf?src-supplier=Farnell; ComponentLink13URL: https://datasheet.ciiva.com/11746/0900766b806b3bd3-11746906.pdf?src-supplier=RSComponents; ComponentLink13Description: https://datasheet.ciiva.com/11746/0900766b806b3bd3-11746906.pdf?src-supplier=RSComponents; ComponentLink14URL: https://datasheet.ciiva.com/7703/eng-ds-82056-mta-0608-7703518.pdf?src-supplier=Element14; ComponentLink14Description: https://datasheet.ciiva.com/7703/eng-ds-82056-mta-0608-7703518.pdf?src-supplier=Element14; ComponentLink15URL: https://datasheet.ciiva.com/3118/eng-ds-82056-mta-0608-3118490.pdf?src-supplier=Avnet; ComponentLink15Description: https://datasheet.ciiva.com/3118/eng-ds-82056-mta-0608-3118490.pdf?src-supplier=Avnet; ComponentLink16URL: https://datasheet.ciiva.com/709/eng-cd-640454-y2-709679.pdf?src-supplier=Digi-Key; ComponentLink16Description: https://datasheet.ciiva.com/709/eng-cd-640454-y2-709679.pdf?src-supplier=Digi-Key; ComponentLink17URL: https://datasheet.ciiva.com/16684/eng-ds-82056-mta-0608-16684984.pdf?src-supplier=Avnet+Europe; ComponentLink17Description: https://datasheet.ciiva.com/16684/eng-ds-82056-mta-0608-16684984.pdf?src-supplier=Avnet+Europe; Supplier 1: Digi-Key
footprint HDR-2x1-100 (Footprint not found)
pins: 1, 2

## HEADER 3
designator J?  (value not drawn)
footprint HDR-3x1-100 (Footprint not found)
pins: 1, 2, 3

## INA240A1PW
designator U?  Supplier Part Number 1: 296-45089-1-ND  Supplier Part Number 2: 595-INA240A1PWR
TEXAS INSTRUMENTS - INA240A1PWR . - CURRENT SENSE AMPLIFIER, 400KHZ, TSSOP-8; SymbolCreator: Altium; CompType: IC; U/M: EA; Number of Circuits: 1; Slew Rate: 2V/µs; Input Bias Current: 90uA; Input Offset Voltage (Vos): 5uV; Operating Supply Current: 1.8mA; SymbolVersion: 2016-01-07; PartNumber: INA240A1PW; PackageReference: PW0008A; MountType: SMT; ComponentLink1Description: Datasheet Link; ComponentLink1URL: https://sps06.itg.ti.com/sites/KMS/crossdivteams/altium/docs/ComponentDatasheets/INA240 Prelim DS - 9-15-15.pdf; Publisher: Texas Instruments; LatestRevisionDate: 2016-03-14; Manufacturer: Texas Instruments; Alternate Manufacturer: Texas Instruments; Manufacturer Part Number: INA240A1PWR; Category: Amplifiers - Op Amps, Buffer, Instrumentation; Stock 1: 14825; Pricing 1: 1=2.78000, 10=2.50000, 50=2.37000, 100=1.95000, 1000=1.40000, 10000=1.34000 (USD); Mount: Surface Mount; Case/Package: TSSOP; Min Operating Temperature: -40°C; Max Operating Temperature: 125°C; Packaging: Tape and Reel; -3db Bandwidth: 400kHz; RoHS Compliant: Yes; Lead Free: Lead Free; ComponentLink2URL: http://www.ti.com/lit/ds/symlink/ina240.pdf?src-supplier=Farnell; ComponentLink2Description: http://www.ti.com/lit/ds/symlink/ina240.pdf?src-supplier=Farnell; ComponentLink3URL: http://www.ti.com/lit/ds/symlink/ina240.pdf?src-supplier=Digi-Key; ComponentLink3Description: http://www.ti.com/lit/ds/symlink/ina240.pdf?src-supplier=Digi-Key; ComponentLink4URL: http://www.ti.com/lit/ds/symlink/ina240.pdf?src-supplier=Newark; ComponentLink4Description: http://www.ti.com/lit/ds/symlink/ina240.pdf?src-supplier=Newark; Supplier 1: Digi-Key; Supplier 2: Mouser
footprint PW0008A_N (SOP, 8-Leads, Body 4.5x3.1mm, Pitch 0.65mm, IPC Medium Density)
footprint PW0008A_M
footprint PW0008A_L
pins: 1 GND (power), 2 IN+ (in), 3 IN- (in), 4 GND (power), 5 VS (power), 6 REF2 (in), 7 REF1 (in), 8 OUT (out)

## Ind_0805
designator L?  value 100nH  Supplier Part Number 1: SRP1770TA-101MCT-ND
FIXED IND 100UH 5.3A 118 MOHM; Manufacturer: TDK; Manufacturer Part Number: MPZ2012S300AT000; Core Material: Ferrite; Impedance: 30R; Current Rating: 6A; DC Resistance (DCR): 10mR; Saturation Current: 6.5A; Shielding: Shielded; Self Resonant Frequency: 2MHz; Test Frequency: 100kHz; Tolerance: 20%; Stock 1: 117704; Pricing 1: 1=0.11, 10=0.091, 25=0.0704, 50=0.0584, 100=0.0503, 250=0.04028, 500=0.03624, 1000=0.0302 (USD); Mount: Surface Mount; Case/Package: 0805; Number of Pins: 3; Case Code (Metric): 2012; Case Code (Imperial): 0805; Packaging: Tape and Reel; Package Quantity: 1; Max DC Current: 6A; Length: 0.079inch; Height: 0.041inch; Width: 0.049inch; Depth: 1.25mm; REACH SVHC: No SVHC; Lead Free: Lead Free; ComponentLink1URL: https://datasheet.ciiva.com/46381/1750041-46381644.pdf; ComponentLink1Description: https://datasheet.ciiva.com/46381/1750041-46381644.pdf; ComponentLink2URL: https://datasheet.ciiva.com/48682/beads-commercial-power-mpz-en-48682508.pdf; ComponentLink2Description: https://datasheet.ciiva.com/48682/beads-commercial-power-mpz-en-48682508.pdf; ComponentLink3URL: https://datasheet.ciiva.com/8077/55169-8077085.pdf; ComponentLink3Description: https://datasheet.ciiva.com/8077/55169-8077085.pdf; ComponentLink4URL: https://datasheet.ciiva.com/8077/55169-8077086.pdf; ComponentLink4Description: https://datasheet.ciiva.com/8077/55169-8077086.pdf; ComponentLink5URL: https://datasheet.ciiva.com/46634/beads-commercial-power-mpz-en-46634590.pdf; ComponentLink5Description: https://datasheet.ciiva.com/46634/beads-commercial-power-mpz-en-46634590.pdf; ComponentLink6URL: https://datasheet.ciiva.com/46634/beads-commercial-power-mpz-en-46634367.pdf; ComponentLink6Description: https://datasheet.ciiva.com/46634/beads-commercial-power-mpz-en-46634367.pdf; RoHS: Yes; Category: Fixed Inductors; Stock 2: 17; Pricing 2: 1=4.17000, 10=3.82200, 25=3.47520, 50=2.91900, 100=2.50200 (USD); Min Operating Temperature: -40°C; Max Operating Temperature: 150°C; Resistor Type: Wirewound; Inductance: 100uH; RMS Current (Irms): 5.3A; Inductance Tolerance: 20%; Height - Seated (Max): 0.276inch; Ratings: AEC-Q200; RoHS Compliant: Yes; ComponentLink7URL: http://www.farnell.com/datasheets/2360566.pdf?src-supplier=Farnell; ComponentLink7Description: http://www.farnell.com/datasheets/2360566.pdf?src-supplier=Farnell; ComponentLink8URL: http://www.farnell.com/datasheets/1955470.pdf?src-supplier=Element14; ComponentLink8Description: http://www.farnell.com/datasheets/1955470.pdf?src-supplier=Element14; ComponentLink9URL: http://www.bourns.com/docs/Product-Datasheets/SRP1770TA.pdf?src-supplier=Digi-Key; ComponentLink9Description: http://www.bourns.com/docs/Product-Datasheets/SRP1770TA.pdf?src-supplier=Digi-Key; ComponentLink10URL: https://www.bourns.com/docs/Product-Datasheets/SRP1770TA.pdf?src-supplier=Digi-Key; ComponentLink10Description: https://www.bourns.com/docs/Product-Datasheets/SRP1770TA.pdf?src-supplier=Digi-Key; Supplier 1: Digi-Key
footprint SRP1770TA (Precision Wire Wound Inductor, 2-Leads, Body 16.90x16.90mm, IPC Medium Density)
pins: 1, 2

## LED_0402
designator D?  (value not drawn)
LED
footprint LED_0402_RED
footprint LED_0402_BLUE
footprint LED_0402_ORANGE
footprint LED_0402_YELLOW
footprint LED_0402_GREEN
pins: 1 A, 2 K

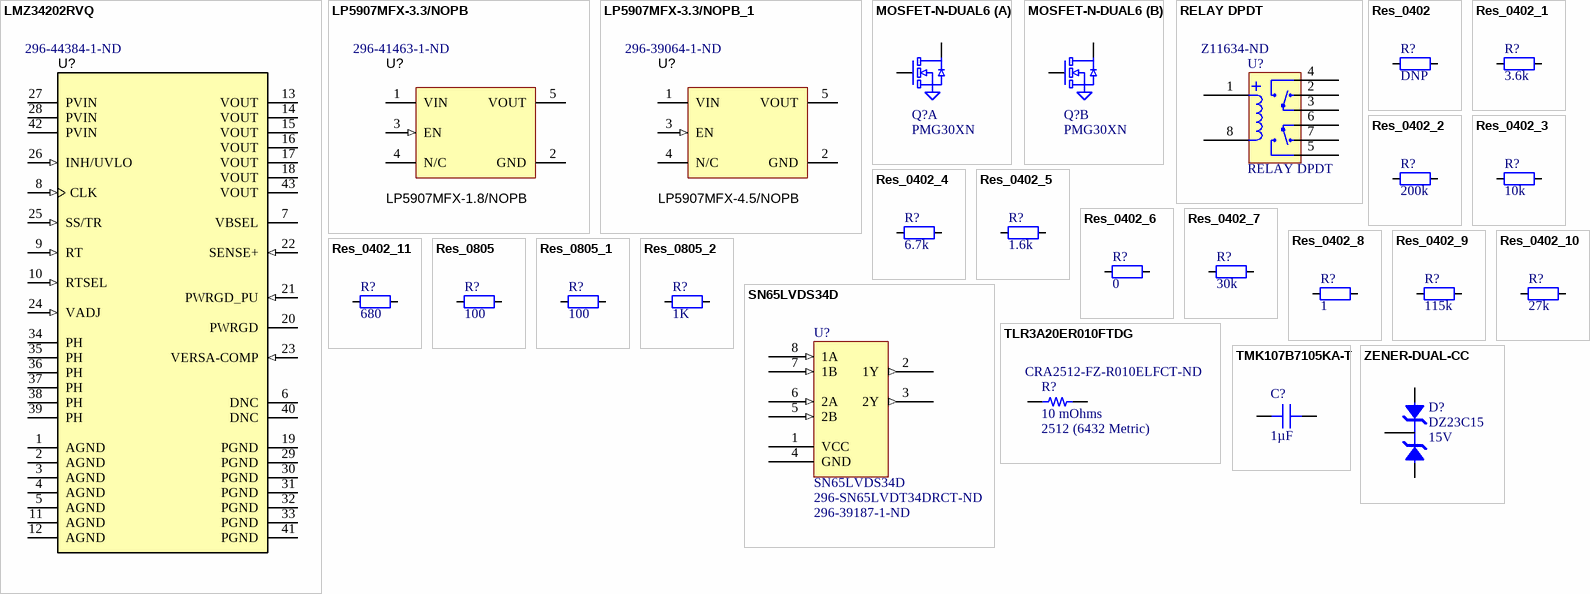
[diagram p1: symbols LMZ34202RVQ to ZENER-DUAL-CC]

## LMZ34202RVQ
designator U?  Supplier Part Number 1: 296-44384-1-ND
SIMPLE SWITCHER 4.5-V to 42-V Input, 2-A Power Module, RVQ00043A (B3QFN-43); PartNumber: LMZ34202RVQ; Manufacturer: Texas Instruments; Manufacturer Part Number: LMZ34202RVQT; SymbolCreator: Altium; SizeArea_mm2: 100; SizeAreaWB_mm2: 144; SizeX_mm: 10; SizeZ_mm: 4.4; CompType: IC; U/M: EA; Number of Outputs: 1; Min Input Voltage: 4.5V; Max Input Voltage: 42V; Voltage - Output 1: 7.5V; Max Output Current: 2A; Efficiency: 92%; SymbolVersion: 2015-09-17; PackageReference: RVQ0043A; PackageDescription: B3QFN-43; MountType: SMT; SizeY_mm: 10; ComponentLink1Description: Datasheet Link; ComponentLink1URL: https://sps06.itg.ti.com/sites/KMS/crossdivteams/altium/docs/ComponentDatasheets/lmz34202word.pdf; Publisher: Texas Instruments; LatestRevisionDate: 2016-12-29; Alternate Manufacturer: Texas Instruments; Supplier 1: Digi-Key; Stock 1: 1340; Pricing 1: 1=8.39, 5=8.27, 10=8.151, 25=7.9112, 50=7.6714, 100=7.4317 (USD); Mount: Surface Mount; Case/Package: QFN; Number of Pins: 43; Min Operating Temperature: -40°C; Max Operating Temperature: 105°C; Packaging: Cut Tape; Features: UVLO; Length: 0.39inch; Height: 0.17inch; Width: 0.39inch; Lead Free: Lead Free; REACH SVHC: No SVHC; ComponentLink2URL: http://www.ti.com/lit/ds/symlink/lmz34202.pdf; ComponentLink2Description: http://www.ti.com/lit/ds/symlink/lmz34202.pdf; ComponentLink3URL: http://www.ti.com/general/docs/lit/getliterature.tsp?genericPartNumber=LMZ34202&&fileType=pdf; ComponentLink3Description: http://www.ti.com/general/docs/lit/getliterature.tsp?genericPartNumber=LMZ34202&&fileType=pdf
footprint RVQ0043A
footprint RVQ0043A_NV
pins: 1 AGND (power), 2 AGND (power), 3 AGND (power), 4 AGND (power), 5 AGND (power), 6 DNC, 7 VBSEL (power), 8 CLK (in), 9 RT (in), 10 RTSEL (in), 11 AGND (power), 12 AGND (power), 13 VOUT (power), 14 VOUT (power), 15 VOUT (power), 16 VOUT (power), 17 VOUT (power), 18 VOUT (power), 19 PGND (power), 20 PWRGD (oc), 21 PWRGD_PU (in), 22 SENSE+ (in), 23 VERSA-COMP (in), 24 VADJ (in), 25 SS/TR (in), 26 INH/UVLO (in), 27 PVIN (power), 28 PVIN (power), 29 PGND (power), 30 PGND (power), 31 PGND (power), 32 PGND (power), 33 PGND (power), 34 PH (power), 35 PH (power), 36 PH (power), 37 PH (power), 38 PH (power), 39 PH (power), 40 DNC, 41 PGND (power), 42 PVIN (power), 43 VOUT (power)
1 alternate drawing of the same symbol

## LP5907MFX-3.3/NOPB
designator U?, comment LP5907MFX-1.8/NOPB  Supplier Part Number 1: 296-41463-1-ND
Ultra Low Noise, 250mA Linear Regulator; Manufacturer: Texas Instruments; SymbolCreator: a0799628; SizeArea_mm2: 8.12; SizeAreaWB_mm2: 14.82; SizeX_mm: 2.8; SizeY_mm: 2.9; SizeZ_mm: 1.45; CompType: IC; U/M: EA; Min Input Voltage: 2.2V; Number of Outputs: 1; Output Voltage: 1.8V; Dropout Voltage: 250mV; Max Input Voltage: 5.5V; Polarity: Positive; Quiescent Current: 25uA; Output Voltage Accuracy: 2%; Power Supply Rejection Ratio (PSRR): 82dB; Output Type: Fixed; SymbolVersion: 2014-03-21; PartNumber: LP5907MFX-1.8/NOPB; PackageReference: DBV0005A; PackageDescription: SOT-5; MountType: SMT; ComponentLink1Description: Datasheet Link; ComponentLink1URL: http://www.ti.com/lit/ds/symlink/lp5907.pdf; RoHS: Y; Publisher: Texas Instruments; LatestRevisionDate: 2016-09-20; Alternate Manufacturer: Texas Instruments; Supplier 1: Digi-Key; Manufacturer Part Number: LP5907MFX-1.8/NOPB; Category: Voltage Regulators - Linear; Stock 1: 17882; Pricing 1: 1=0.57000, 10=0.48900, 25=0.45640, 100=0.33900, 250=0.28684, 500=0.27380, 1000=0.20209 (USD); Mount: Surface Mount; Case/Package: SOT-23; Number of Pins: 5; Contact Plating: Tin; Min Operating Temperature: -40°C; Max Operating Temperature: 125°C; Packaging: Tape and Reel; Package Quantity: 3000; Output Current: 250mA; Number of Regulators: 1; Nominal Output Voltage: 1.8V; Accuracy: 2%; Max Output Current: 250mA; REACH SVHC: No SVHC; Lead Free: Lead Free; RoHS Compliant: Yes; ComponentLink2URL: https://datasheet.ciiva.com/15083/lp5907-15083594.pdf?src-supplier=Digi-Key; ComponentLink2Description: https://datasheet.ciiva.com/15083/lp5907-15083594.pdf?src-supplier=Digi-Key
footprint DBV0005A_N
footprint DBV0005A_M
footprint DBV0005A_L
pins: 1 VIN (power), 2 GND (power), 3 EN (in), 4 N/C, 5 VOUT (power)
1 alternate drawing of the same symbol

## LP5907MFX-3.3/NOPB_1
designator U?, comment LP5907MFX-4.5/NOPB  Supplier Part Number 1: 296-39064-1-ND
IC REG LINEAR 4.5V 250MA SOT23-5; Manufacturer: Texas Instruments; SymbolCreator: a0799628; SizeArea_mm2: 8.12; SizeAreaWB_mm2: 14.82; SizeX_mm: 2.8; SizeY_mm: 2.9; SizeZ_mm: 1.45; U/M: EA; Dropout Voltage: 250mV; Max Input Voltage: 5.5V; Min Input Voltage: 2.2V; Number of Outputs: 1; Polarity: Positive; Quiescent Current: 25uA; Output Voltage Accuracy: 2%; Power Supply Rejection Ratio (PSRR): 82dB; Output Type: Fixed; SymbolVersion: 2014-03-21; PartNumber: LP5907MFX-4.5/NOPB; PackageReference: DBV0005A; PackageDescription: SOT-5; MountType: SMT; ComponentLink1Description: Datasheet Link; ComponentLink1URL: http://www.ti.com/lit/ds/symlink/lp5907.pdf; CompType: IC; RoHS: Y; Publisher: Texas Instruments; LatestRevisionDate: 2016-09-20; Alternate Manufacturer: Texas Instruments; Supplier 1: Digi-Key; Manufacturer Part Number: LP5907MFX-4.5/NOPB; Category: Voltage Regulators - Linear; Stock 1: 15040; Pricing 1: 1=0.57000, 10=0.48900, 25=0.45640, 100=0.33900, 250=0.28684, 500=0.27380, 1000=0.20209 (USD); Mount: Surface Mount; Case/Package: SOT-23; Number of Pins: 5; Contact Plating: Tin; Min Operating Temperature: -40°C; Max Operating Temperature: 125°C; Output Voltage: 4.5V; Output Current: 250mA; Packaging: Tape and Reel; Package Quantity: 3000; Number of Regulators: 1; Nominal Output Voltage: 4.5V; Accuracy: 2%; Max Output Current: 250mA; REACH SVHC: No SVHC; Lead Free: Lead Free; RoHS Compliant: Yes; ComponentLink2URL: https://datasheet.ciiva.com/15083/lp5907-15083593.pdf?src-supplier=Digi-Key; ComponentLink2Description: https://datasheet.ciiva.com/15083/lp5907-15083593.pdf?src-supplier=Digi-Key
footprint DBV0005A_N
footprint DBV0005A_M
footprint DBV0005A_L
pins: 1 VIN (power), 2 GND (power), 3 EN (in), 4 N/C, 5 VOUT (power)
1 alternate drawing of the same symbol

## MOSFET-N-DUAL6
designator Q?, comment PMG30XN
footprint SC70-6
footprint SC-70-6 (Footprint not found)
part A pins: 1 S1 hidden to GND, 2 G1, 6 D1
part B pins: 3 D2, 4 S2 hidden to GND, 5 G2
1 alternate drawing of the same symbol

## RELAY DPDT
designator U?  Supplier Part Number 1: Z11634-ND
Supplier 1: Digi-Key
footprint FP-G6K-2G_DC5-MFG
pins: 1 COIL+, 2 NC, 3 COM, 4 NO, 5 NO, 6 COM, 7 NC, 8 COIL-
1 alternate drawing of the same symbol

## Res_0402
designator R?  value DNP  (hidden comment: Res_0402)
Resistor
footprint RESC1005X40X25NL05T05 (Chip Resistor, 2-Leads, Body 1.05x0.55mm, IPC Medium Density)
pins: 1, 2

## Res_0402_1
designator R?, comment value 3.6k  (hidden comment: Res_0402)
Resistor
footprint RESC1005X40X25NL05T05 (Chip Resistor, 2-Leads, Body 1.05x0.55mm, IPC Medium Density)
pins: 1, 2

## Res_0402_2
designator R?, comment value 200k  (hidden comment: Res_0402)
Resistor
footprint RESC1005X40X25NL05T05 (Chip Resistor, 2-Leads, Body 1.05x0.55mm, IPC Medium Density)
pins: 1, 2

## Res_0402_3
designator R?, comment value 10k  (hidden comment: Res_0402)
Resistor
footprint RESC1005X40X25NL05T05 (Chip Resistor, 2-Leads, Body 1.05x0.55mm, IPC Medium Density)
pins: 1, 2

## Res_0402_4
designator R?, comment value 6.7k  (hidden comment: Res_0402)
Resistor
footprint RESC1005X40X25NL05T05 (Chip Resistor, 2-Leads, Body 1.05x0.55mm, IPC Medium Density)
pins: 1, 2

## Res_0402_5
designator R?, comment value 1.6k  (hidden comment: Res_0402)
Resistor
footprint RESC1005X40X25NL05T05 (Chip Resistor, 2-Leads, Body 1.05x0.55mm, IPC Medium Density)
pins: 1, 2

## Res_0402_6
designator R?, comment value 0  (hidden comment: Res_0402)
Resistor
footprint RESC1005X40X25NL05T05 (Chip Resistor, 2-Leads, Body 1.05x0.55mm, IPC Medium Density)
pins: 1, 2

## Res_0402_7
designator R?, comment value 30k  (hidden comment: Res_0402)
Resistor
footprint RESC1005X40X25NL05T05 (Chip Resistor, 2-Leads, Body 1.05x0.55mm, IPC Medium Density)
pins: 1, 2

## Res_0402_8
designator R?, comment value 1  (hidden comment: Res_0402)
Resistor
footprint RESC1005X40X25NL05T05 (Chip Resistor, 2-Leads, Body 1.05x0.55mm, IPC Medium Density)
pins: 1, 2